# EAGLE library part DMG1023UV (library alvie)
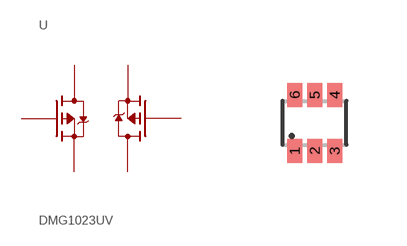
[diagram p32: symbol with the pads of SOT563; footprint SOT563]

Designator prefix -

## DMG1023UV  [SOT563]
1  S1  pas
2  G1  pas
3  D2  pas
4  S2  pas
5  G2  pas
6  D1  pas

## Footprint SOT563 (pad centres in mm)
smd 0.375 x 0.6: 1 -0.5,-0.7; 2 0,-0.7; 3 0.5,-0.7; 4 0.5,0.7; 5 0,0.7; 6 -0.5,0.7